# Altium footprint library footprint NODES.PcbLib: 23 footprints (part 1 of 2)
Each footprint in its own frame and in the unit in brackets; x right, y up, seen from the top. Pads: shape width x height; smd on the part's side, far side on the other; paste and mask are expansions set on the pad; w line width, h text height; cw(c..) or ccw(c..) is an arc to the next point about the centre after c.
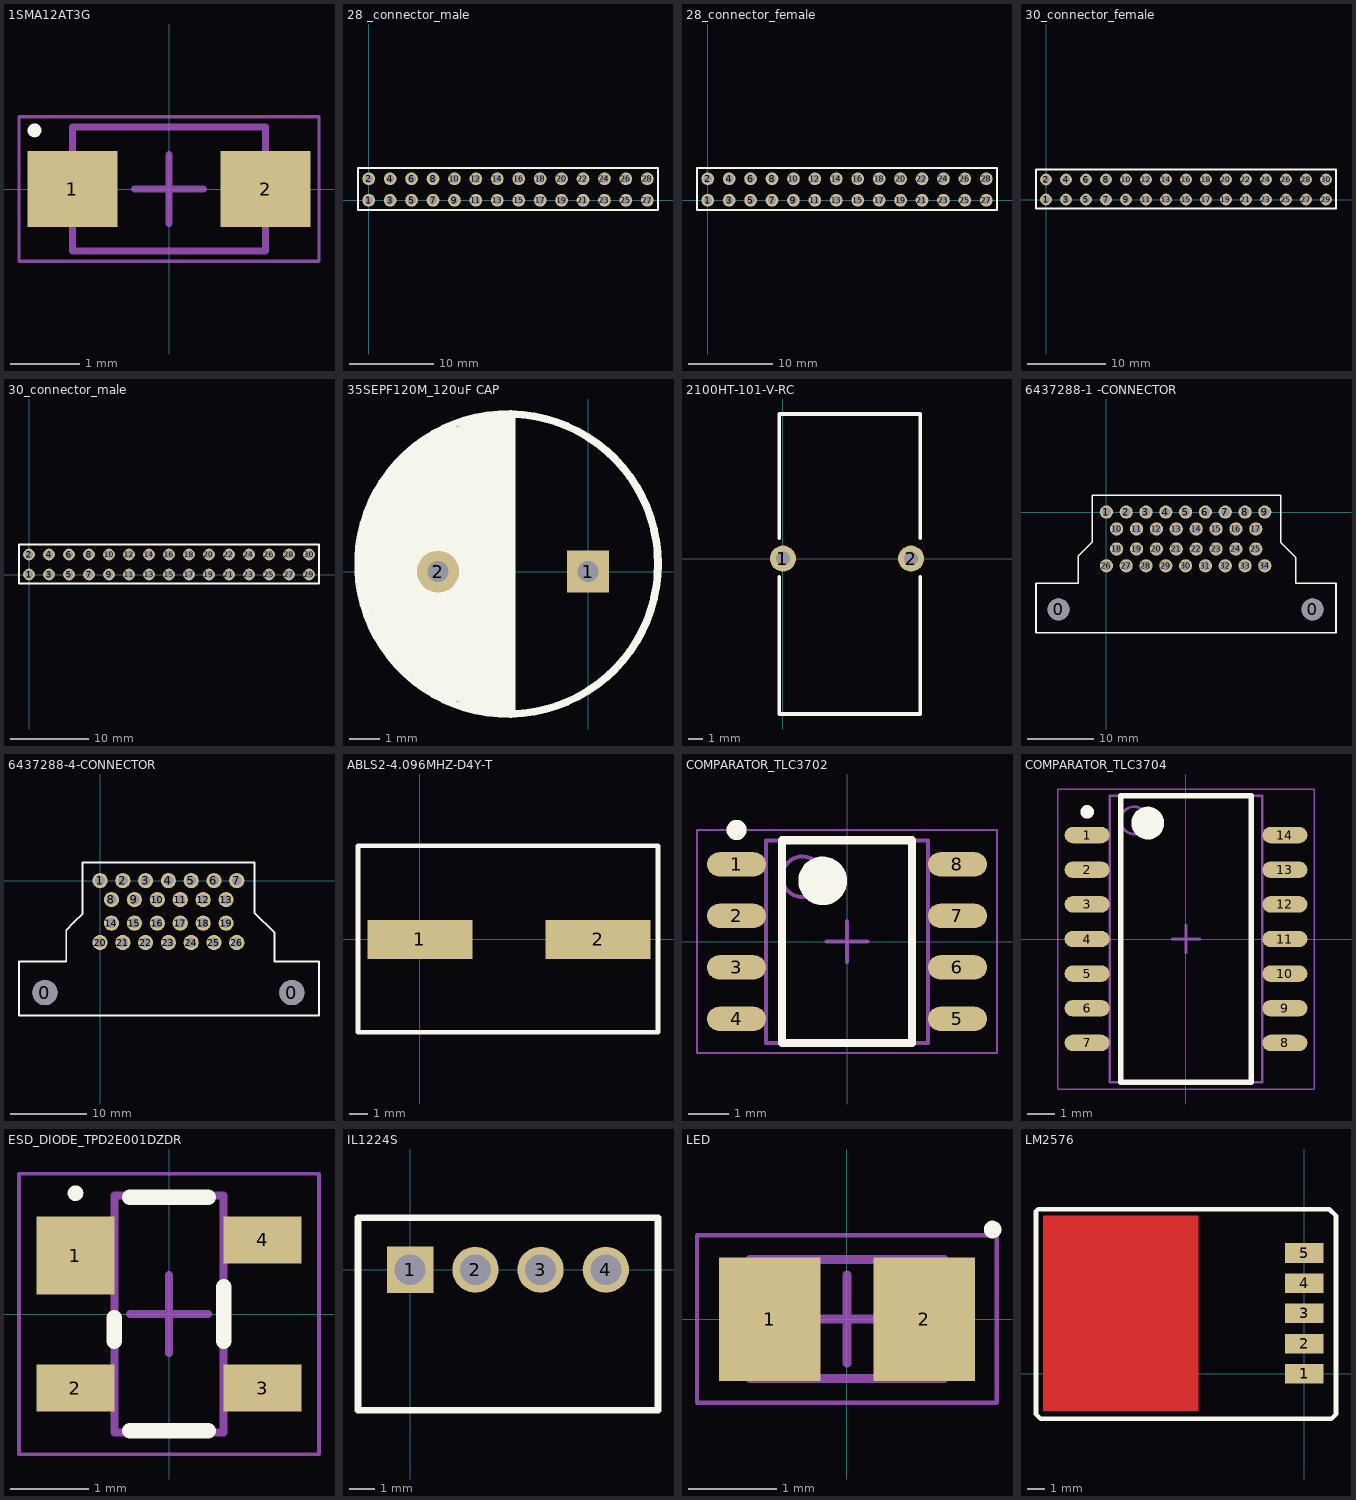
[diagram p0: the footprints below, top view; thin cyan lines are the x and y axes]

## 1SMA12AT3G [mm]
height 2.2
pads (2):
  rect 1.3x1.1 smd: 1(-1.4,0) 2(1.4,0)
Top Overlay:
  circle w0.1: c-1.95,0.85 r0.05
Mechanical 13:
  lines w0.1: -1.4,-0.9 -1.4,0.9 1.4,0.9 1.4,-0.9 -1.4,-0.9
Mechanical 15:
  lines w0.05: -2.175,-1.05 -2.175,1.05 2.175,1.05 2.175,-1.05 -2.175,-1.05
  lines w0.1: -0.5,0 0.5,0 ; 0,-0.5 0,0.5
3D body: height 1.33, standoff 0, extent -1.4,-0.9 1.4,0.9

## 28 _connector_male [mm]
pads (28):
  round 1.5 hole 1: 1(0,0) 2(0,2.54) 3(2.54,0) 4(2.54,2.54) 5(5.08,0) 6(5.08,2.54) 7(7.62,0) 8(7.62,2.54) 9(10.16,0) 10(10.16,2.54) 11(12.7,0) 12(12.7,2.54) 13(15.24,0) 14(15.24,2.54) 15(17.78,0) 16(17.78,2.54) 17(20.32,0) 18(20.32,2.54) 19(22.86,0) 20(22.86,2.54) 21(25.4,0) 22(25.4,2.54) 23(27.94,0) 24(27.94,2.54) 25(30.48,0) 26(30.48,2.54) 27(33.02,0) 28(33.02,2.54)
Top Overlay:
  lines w0.254: -1.27,-1.143 -1.27,3.81 34.29,3.81 34.29,-1.143 -1.27,-1.143
3D body: height 7, standoff 0, extent 32.512,-0.508 33.655,0.508
3D body: height 7, standoff 0, extent 32.512,2.032 33.655,3.048
3D body: height 7, standoff 0, extent 29.972,-0.508 31.115,0.508
3D body: height 7, standoff 0, extent 29.972,2.032 31.115,3.048
3D body: height 7, standoff 0, extent 27.432,-0.508 28.575,0.508
3D body: height 7, standoff 0, extent 27.432,2.032 28.575,3.048
3D body: height 7, standoff 0, extent 24.892,-0.508 26.035,0.508
3D body: height 7, standoff 0, extent 24.892,2.032 26.035,3.048
3D body: height 7, standoff 0, extent 22.352,-0.508 23.495,0.508
3D body: height 7, standoff 0, extent 22.352,2.032 23.495,3.048
3D body: height 7, standoff 0, extent 19.812,-0.508 20.955,0.508
3D body: height 7, standoff 0, extent 19.812,2.032 20.955,3.048
3D body: height 7, standoff 0, extent 17.272,-0.508 18.415,0.508
3D body: height 7, standoff 0, extent 17.272,2.032 18.415,3.048
3D body: height 7, standoff 0, extent 14.732,-0.508 15.875,0.508
3D body: height 7, standoff 0, extent 14.732,2.032 15.875,3.048
3D body: height 7, standoff 0, extent 12.065,-0.508 13.208,0.508
3D body: height 7, standoff 0, extent 12.192,1.905 13.335,2.921
3D body: height 7, standoff 0, extent 9.525,-0.508 10.668,0.508
3D body: height 7, standoff 0, extent 9.652,2.032 10.795,3.048
3D body: height 7, standoff 0, extent 7.112,-0.508 8.255,0.508
3D body: height 7, standoff 0, extent 7.112,2.032 8.255,3.048
3D body: height 7, standoff 0, extent -0.635,-0.508 0.508,0.508
3D body: height 7, standoff 0, extent 1.905,-0.508 3.048,0.508
3D body: height 7, standoff 0, extent 4.445,-0.508 5.588,0.508
3D body: height 7, standoff 0, extent 4.572,2.032 5.715,3.048
3D body: height 7, standoff 0, extent 1.905,2.032 3.048,3.048
3D body: height 7, standoff 0, extent -0.508,2.032 0.635,3.048

## 28_connector_female [mm]
pads (28):
  round 1.5 hole 1: 1(0,0) 2(0,2.54) 3(2.54,0) 4(2.54,2.54) 5(5.08,0) 6(5.08,2.54) 7(7.62,0) 8(7.62,2.54) 9(10.16,0) 10(10.16,2.54) 11(12.7,0) 12(12.7,2.54) 13(15.24,0) 14(15.24,2.54) 15(17.78,0) 16(17.78,2.54) 17(20.32,0) 18(20.32,2.54) 19(22.86,0) 20(22.86,2.54) 21(25.4,0) 22(25.4,2.54) 23(27.94,0) 24(27.94,2.54) 25(30.48,0) 26(30.48,2.54) 27(33.02,0) 28(33.02,2.54)
Top Overlay:
  lines w0.254: -1.27,-1.143 34.29,-1.143 34.29,3.81 -1.27,3.81 -1.27,-1.143

## 30_connector_female [mm]
pads (30):
  round 1.5 hole 1: 1(0,0) 2(0,2.54) 3(2.54,0) 4(2.54,2.54) 5(5.08,0) 6(5.08,2.54) 7(7.62,0) 8(7.62,2.54) 9(10.16,0) 10(10.16,2.54) 11(12.7,0) 12(12.7,2.54) 13(15.24,0) 14(15.24,2.54) 15(17.78,0) 16(17.78,2.54) 17(20.32,0) 18(20.32,2.54) 19(22.86,0) 20(22.86,2.54) 21(25.4,0) 22(25.4,2.54) 23(27.94,0) 24(27.94,2.54) 25(30.48,0) 26(30.48,2.54) 27(33.02,0) 28(33.02,2.54) 29(35.56,0) 30(35.56,2.54)
Top Overlay:
  lines w0.254: -1.27,-1.143 36.83,-1.143 36.83,3.81 -1.27,3.81 -1.27,-1.143

## 30_connector_male [mm]
pads (30):
  round 1.5 hole 1: 1(0,0) 2(0,2.54) 3(2.54,0) 4(2.54,2.54) 5(5.08,0) 6(5.08,2.54) 7(7.62,0) 8(7.62,2.54) 9(10.16,0) 10(10.16,2.54) 11(12.7,0) 12(12.7,2.54) 13(15.24,0) 14(15.24,2.54) 15(17.78,0) 16(17.78,2.54) 17(20.32,0) 18(20.32,2.54) 19(22.86,0) 20(22.86,2.54) 21(25.4,0) 22(25.4,2.54) 23(27.94,0) 24(27.94,2.54) 25(30.48,0) 26(30.48,2.54) 27(33.02,0) 28(33.02,2.54) 29(35.56,0) 30(35.56,2.54)
Top Overlay:
  lines w0.254: -1.27,-1.143 36.83,-1.143 36.83,3.81 -1.27,3.81 -1.27,-1.143
3D body: height 7, standoff 0, extent -0.508,2.032 0.635,3.048
3D body: height 7, standoff 0, extent 1.905,2.032 3.048,3.048
3D body: height 7, standoff 0, extent 4.572,2.032 5.715,3.048
3D body: height 7, standoff 0, extent 4.445,-0.508 5.588,0.508
3D body: height 7, standoff 0, extent 1.905,-0.508 3.048,0.508
3D body: height 7, standoff 0, extent -0.635,-0.508 0.508,0.508
3D body: height 7, standoff 0, extent 7.112,2.032 8.255,3.048
3D body: height 7, standoff 0, extent 7.112,-0.508 8.255,0.508
3D body: height 7, standoff 0, extent 9.652,2.032 10.795,3.048
3D body: height 7, standoff 0, extent 9.525,-0.508 10.668,0.508
3D body: height 7, standoff 0, extent 12.192,1.905 13.335,2.921
3D body: height 7, standoff 0, extent 12.065,-0.508 13.208,0.508
3D body: height 7, standoff 0, extent 14.732,2.032 15.875,3.048
3D body: height 7, standoff 0, extent 14.732,-0.508 15.875,0.508
3D body: height 7, standoff 0, extent 17.272,2.032 18.415,3.048
3D body: height 7, standoff 0, extent 17.272,-0.508 18.415,0.508
3D body: height 7, standoff 0, extent 19.812,2.032 20.955,3.048
3D body: height 7, standoff 0, extent 19.812,-0.508 20.955,0.508
3D body: height 7, standoff 0, extent 22.352,2.032 23.495,3.048
3D body: height 7, standoff 0, extent 22.352,-0.508 23.495,0.508
3D body: height 7, standoff 0, extent 24.892,2.032 26.035,3.048
3D body: height 7, standoff 0, extent 24.892,-0.508 26.035,0.508
3D body: height 7, standoff 0, extent 27.432,2.032 28.575,3.048
3D body: height 7, standoff 0, extent 27.432,-0.508 28.575,0.508
3D body: height 7, standoff 0, extent 29.972,2.032 31.115,3.048
3D body: height 7, standoff 0, extent 29.972,-0.508 31.115,0.508
3D body: height 7, standoff 0, extent 32.512,2.032 33.655,3.048
3D body: height 7, standoff 0, extent 32.512,-0.508 33.655,0.508
3D body: height 7, standoff 0, extent 35.052,2.032 36.195,3.048
3D body: height 7, standoff 0, extent 35.052,-0.508 36.195,0.508

## 35SEPF120M_120uF CAP [mm]
pads (2):
  rect 1.4x1.4 hole 0.7: 1(0,0)
  round 1.4 hole 0.7: 2(-5,0)
Top Overlay:
  circle w0.254: c-2.667,0.254 r5
  rectangle: -6.858,-2.667 -5.969,-2.032
  rectangle: -7.239,1.905 -6.604,2.54
  rectangle: -7.366,1.524 -6.731,2.159
  rectangle: -6.985,1.524 -6.477,3.048
  rectangle: -6.731,1.651 -6.604,3.175
  rectangle: -6.731,1.651 -6.223,3.302
  rectangle: -7.62,-0.508 -7.366,1.524
  rectangle: -7.493,-1.397 -7.239,1.905
  rectangle: -7.239,-2.032 -6.858,2.159
  rectangle: -6.985,-2.286 -6.35,2.286
  rectangle: -6.604,2.54 -5.969,3.429
  rectangle: -4.318,4.318 -3.683,5.08
  rectangle: -5.969,3.683 -5.461,4.064
  rectangle: -5.715,3.81 -5.207,4.318
  rectangle: -6.223,3.302 -5.207,3.937
  rectangle: -5.588,3.429 -4.953,4.445
  rectangle: -6.477,2.794 -4.826,3.683
  rectangle: -5.334,2.921 -4.572,4.572
  rectangle: -4.953,3.048 -3.683,4.826
  rectangle: -5.715,-3.81 -5.334,-3.429
  rectangle: -5.461,-3.937 -5.207,-3.683
  rectangle: -5.842,-3.683 -5.207,-3.429
  rectangle: -6.223,-3.429 -5.207,-3.175
  rectangle: -6.35,-3.175 -5.207,-2.667
  rectangle: -4.953,-4.318 -4.826,-3.175
  rectangle: -5.207,-4.064 -4.572,-3.683
  rectangle: -4.826,-4.318 -4.572,-3.81
  rectangle: -5.207,-4.064 -4.826,-3.683
  rectangle: -4.826,-4.318 -4.064,-3.429
  rectangle: -3.556,-4.699 -2.54,-4.318
  rectangle: -4.318,-4.572 -2.54,-3.937
  rectangle: -5.461,-3.937 -2.54,-2.921
  rectangle: -6.604,-2.921 -2.54,3.175
  rectangle: -3.937,3.048 -2.54,5.207
  lines w0.254: -2.54,-4.699 -2.54,5.207
3D body: height 13.03, standoff -4.52, extent -7.976,-4.953 2.54,5.537

## 2100HT-101-V-RC [mm]
pads (2):
  round 1.8 hole 1: 1(0,0) 2(8.89,0)
Top Overlay:
  lines w0.254: -0.254,-1.27 -0.254,-10.795 9.525,-10.795 9.525,-1.27 ; -0.254,1.397 -0.254,10.033 9.525,10.033 9.525,1.397
3D body: height 20.46, standoff -13.16, extent -0.305,-10.922 9.449,10.008

## 6437288-1 -CONNECTOR [mm]
pads (36):
  round 3.3 hole 3.3: 0(-7.25,-14.75) 0(31.25,-14.75)
  round 2 hole 1.4: 1(0,0) 2(3.001,0) 3(6.002,0) 4(9.004,0) 5(12.005,0) 6(15.006,0) 7(18.007,0) 8(21.009,0) 9(24.01,0) 10(1.55,-2.55) 11(4.564,-2.55) 12(7.579,-2.55) 13(10.593,-2.55) 14(13.607,-2.55) 15(16.621,-2.55) 16(19.636,-2.55) 17(22.65,-2.55) 18(1.55,-5.6) 19(4.564,-5.6) 20(7.579,-5.6) 21(10.593,-5.6) 22(13.607,-5.6) 23(16.621,-5.6) 24(19.636,-5.6) 25(22.65,-5.6) 26(0,-8.15) 27(3.001,-8.15) 28(6.002,-8.15) 29(9.004,-8.15) 30(12.005,-8.15) 31(15.006,-8.15) 32(18.007,-8.15) 33(21.009,-8.15) 34(24.01,-8.15)
Top Overlay:
  lines w0.254: -10.668,-18.288 34.798,-18.288 34.798,-10.795 28.702,-10.795 28.702,-6.89 26.416,-4.604 26.416,0.159 26.416,2.54 -2.159,2.54 -2.159,1.111 -2.159,-4.54 -4.286,-6.667 -4.286,-10.795 -10.668,-10.795 -10.668,-18.288
3D body: height 27.95, standoff -4.2, extent -10.702,-34.125 34.798,2.375

## 6437288-4-CONNECTOR [mm]
pads (28):
  round 3.3 hole 3.3: 0(-7.25,-14.75) 0(25.25,-14.75)
  round 2 hole 1.3: 1(0,0) 2(3,0) 3(6,0) 4(9,0) 5(12,0) 6(15,0) 7(18,0) 8(1.5,-2.5) 9(4.52,-2.5) 10(7.54,-2.5) 11(10.56,-2.5) 12(13.58,-2.5) 13(16.6,-2.5) 14(1.5,-5.6) 15(4.52,-5.6) 16(7.54,-5.6) 17(10.56,-5.6) 18(13.58,-5.6) 19(16.6,-5.6) 20(0,-8.15) 21(3,-8.15) 22(6,-8.15) 23(9,-8.15) 24(12,-8.15) 25(15,-8.15) 26(18,-8.15)
Top Overlay:
  lines w0.254: -10.668,-17.78 -10.668,-10.636 -4.445,-10.636 -4.445,-6.509 -3.429,-5.493 -2.286,-4.35 -2.286,-0.603 -2.286,2.413 20.32,2.413 20.32,-2.762 20.32,-4.223 22.987,-6.89 22.987,-10.668 28.829,-10.668 28.829,-17.78 -10.668,-17.78
3D body: height 27.7, standoff -4.2, extent -10.671,-34.087 28.829,2.413

## ABLS2-4.096MHZ-D4Y-T [mm]
pads (2):
  rect 5.6x2.1 smd: 1(0,0) 2(9.5,0)
Top Overlay:
  lines w0.254: -3.302,-4.953 -3.302,5 0,5 12.7,5 12.7,-4.953 -3.302,-4.953
3D body: height 3, standoff 0, extent -3.175,-4.445 12.7,4.445

## COMPARATOR_TLC3702 [mm]
height 1.75
pads (8):
  oval 1.45x0.6 smd: 1(-2.725,1.905) 2(-2.725,0.635) 3(-2.725,-0.635) 4(-2.725,-1.905) 5(2.725,-1.905) 6(2.725,-0.635) 7(2.725,0.635) 8(2.725,1.905)
Top Overlay:
  circle w0.6: c-0.6,1.5 r0.3
  circle w0.25: c-2.725,2.755 r0.125
  lines w0.2: -1.6,-2.5 1.6,-2.5 1.6,2.5 -1.6,2.5 -1.6,-2.5
Mechanical 13:
  circle w0.1: c-1.1,1.6 r0.5
  lines w0.1: -2,-2.5 2,-2.5 2,2.5 -2,2.5 -2,-2.5
Mechanical 15:
  lines w0.05: -3.7,-2.75 3.7,-2.75 3.7,2.75 -3.7,2.75 -3.7,-2.75
  lines w0.1: -0.5,0 0.5,0 ; 0,-0.5 0,0.5
3D body: height 1.75, standoff 0.15, extent -2,-2.5 2,2.5

## COMPARATOR_TLC3704 [mm]
height 2
pads (14):
  oval 1.65x0.6 smd: 1(-3.625,3.81) 2(-3.625,2.54) 3(-3.625,1.27) 4(-3.625,0) 5(-3.625,-1.27) 6(-3.625,-2.54) 7(-3.625,-3.81) 8(3.625,-3.81) 9(3.625,-2.54) 10(3.625,-1.27) 11(3.625,0) 12(3.625,1.27) 13(3.625,2.54) 14(3.625,3.81)
Top Overlay:
  circle w0.25: c-3.625,4.66 r0.125
  circle w0.6: c-1.4,4.25 r0.3
  lines w0.2: -2.4,-5.25 -2.4,5.25 2.4,5.25 2.4,-5.25 -2.4,-5.25
Mechanical 13:
  circle w0.1: c-1.9,4.35 r0.5
  lines w0.1: -2.8,-5.25 -2.8,5.25 2.8,5.25 2.8,-5.25 -2.8,-5.25
Mechanical 15:
  lines w0.05: -4.7,-5.5 -4.7,5.5 4.7,5.5 4.7,-5.5 -4.7,-5.5
  lines w0.1: -0.5,0 0.5,0 ; 0,-0.5 0,0.5
3D body: height 2, standoff 0.15, extent -2.8,-5.25 2.8,5.25

## ESD_DIODE_TPD2E001DZDR [mm] "SOT143, 4-Leads, Body 2.92x2.37mm, Pitch 1.90mm, IPC Medium Density"
height 1.2
pads (4):
  rect 1x1 smd: 1(-1.2,0.75)
  rect 1x0.6 smd: 2(-1.2,-0.95) 3(1.2,-0.95) 4(1.2,0.95)
Top Overlay:
  circle w0.1: c-1.2,1.55 r0.05
  lines w0.2: -0.7,-0.35 -0.7,-0.05 ; -0.5,-1.5 0.5,-1.5 ; -0.5,1.5 0.5,1.5 ; 0.7,-0.35 0.7,0.35
Mechanical 13:
  lines w0.1: -0.7,-1.52 -0.7,1.52 0.7,1.52 0.7,-1.52 -0.7,-1.52
Mechanical 15:
  lines w0.05: -1.925,-1.8 -1.925,1.8 1.925,1.8 1.925,-1.8 -1.925,-1.8
  lines w0.1: -0.5,0 0.5,0 ; 0,-0.5 0,0.5
3D body: height 1.2, standoff 0.15, extent -0.7,-1.52 0.7,1.52

## IL1224S [mm]
pads (4):
  rect 1.8x1.8 hole 1.2: 1(0,0)
  round 1.8 hole 1.2: 2(2.54,0) 3(5.08,0) 4(7.62,0)
Top Overlay:
  lines w0.254: -2.03,-5.48 9.65,-5.48 9.65,2.03 -2.03,2.03 -2.03,0 -2.03,-5.48
3D body: height 10.6, standoff 0, extent -2.032,-5.461 9.652,2.032

## LED [mm]
pads (2):
  rect 1.15x1.4 smd: 1(-0.875,0) 2(0.875,0)
Top Overlay:
  circle w0.1: c1.651,1.016 r0.05
Mechanical 13:
  lines w0.1: -1.1,-0.675 -1.1,0.675 1.1,0.675 1.1,-0.675 -1.1,-0.675
Mechanical 15:
  lines w0.05: -1.7,-0.95 -1.7,0.95 1.7,0.95 1.7,-0.95 -1.7,-0.95
  lines w0.1: -0.5,0 0.5,0 ; 0,-0.5 0,0.5
3D body: height 1, standoff 0, extent -0.495,-0.498 0.5,0.498
3D body: height 0.65, standoff 0, extent -1.1,-0.675 -0.75,0.675
3D body: height 0.65, standoff 0, extent 0.75,-0.675 1.1,0.675
3D body: height 0.4, standoff 0, extent -0.889,-0.762 0.889,0.762

## LM2576 [mm]
pads (5):
  rect 2.16x1.1 smd: 1(0,0) 2(0,1.7) 3(0,3.4) 4(0,5.1) 5(0,6.8)
Top Layer:
  rectangle: -14.732,-2.1 -5.969,8.9
Top Overlay:
  lines w0.254: -15.113,-2.286 -15.113,9.017 -15.113,9.144 -14.986,9.271 1.397,9.271 1.778,8.89 1.778,-2.286 1.524,-2.54 -14.859,-2.54 -15.113,-2.286
3D body: height 1, standoff 0, extent -1.524,-0.508 0.889,0.508
3D body: height 4, standoff 1, extent -1.524,-0.508 -0.889,0.508
3D body: height 4, standoff 3, extent -3.81,-0.508 -1.524,0.508
3D body: height 1, standoff 0, extent -1.524,1.143 0.889,2.159
3D body: height 4, standoff 1, extent -1.524,1.143 -0.889,2.159
3D body: height 4, standoff 3, extent -3.81,1.143 -1.524,2.159
3D body: height 1, standoff 0, extent -1.524,2.921 0.889,3.937
3D body: height 4, standoff 1, extent -1.524,2.921 -0.889,3.937
3D body: height 4, standoff 3, extent -3.81,2.921 -1.524,3.937
3D body: height 1, standoff 0, extent -1.524,4.572 0.889,5.588
3D body: height 4, standoff 1, extent -1.524,4.572 -0.889,5.588
3D body: height 4, standoff 3, extent -3.81,4.572 -1.524,5.588
3D body: height 6, standoff 0, extent -14.859,-2.286 -3.81,9.017
3D body: height 4, standoff 3, extent -3.81,6.35 -1.524,7.366
3D body: height 4, standoff 1, extent -1.524,6.35 -0.889,7.366
3D body: height 1, standoff 0, extent -1.524,6.35 0.889,7.366